# EAGLE library part AVR-5_ATTINY1634 (library Eency_v01)
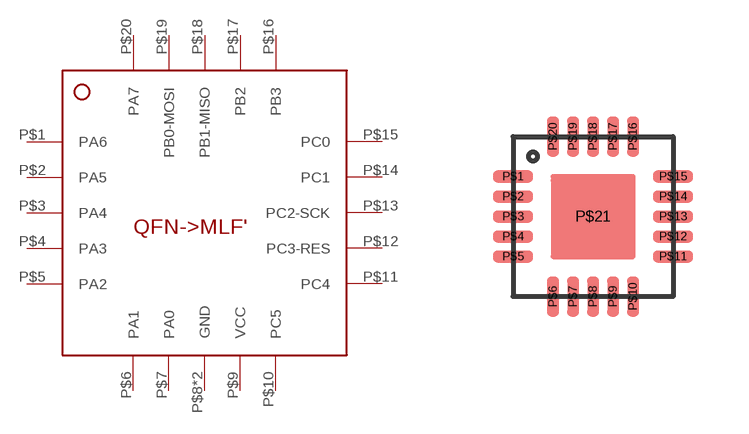
[diagram p0: symbol with the pads of AVR-5_MLF20/ATTINY13; footprint AVR-5_MLF20/ATTINY13]

Designator prefix -

## AVR-5_ATTINY1634  [AVR-5_MLF20/ATTINY13]
P$1  PA6
P$2  PA5
P$3  PA4
P$4  PA3
P$5  PA2
P$6  PA1
P$7  PA0
P$8  GND
P$9  VCC
P$10  PC5
P$11  PC4
P$12  PC3-RES
P$13  PC2-SCK
P$14  PC1
P$15  PC0
P$16  PB3
P$17  PB2
P$18  PB1-MISO
P$19  PB0-MOSI
P$20  PA7
P$21  GND

## Footprint AVR-5_MLF20/ATTINY13 (pad centres in mm)
HP-VFQFP-N20 Micro Lead Frame package (MLF)
smd 1 x 0.3: P$1 -2,1; P$2 -2,0.5; P$3 -2,0; P$4 -2,-0.5; P$5 -2,-1; P$11 2,-1; P$12 2,-0.5; P$13 2,0; P$14 2,0.5; P$15 2,1
smd 0.3 x 1: P$6 -1,-2; P$7 -0.5,-2; P$8 0,-2; P$9 0.5,-2; P$10 1,-2; P$16 1,2; P$17 0.5,2; P$18 0,2; P$19 -0.5,2; P$20 -1,2
smd 0.813 x 0.406: P$21 0,0